# Altium footprint library CONNECTOR.PcbLib: 181 footprints (part 8 of 12)
Each footprint in its own frame and in the unit in brackets; x right, y up, seen from the top. Pads: shape width x height; smd on the part's side, far side on the other; paste and mask are expansions set on the pad; w line width, h text height; cw(c..) or ccw(c..) is an arc to the next point about the centre after c.
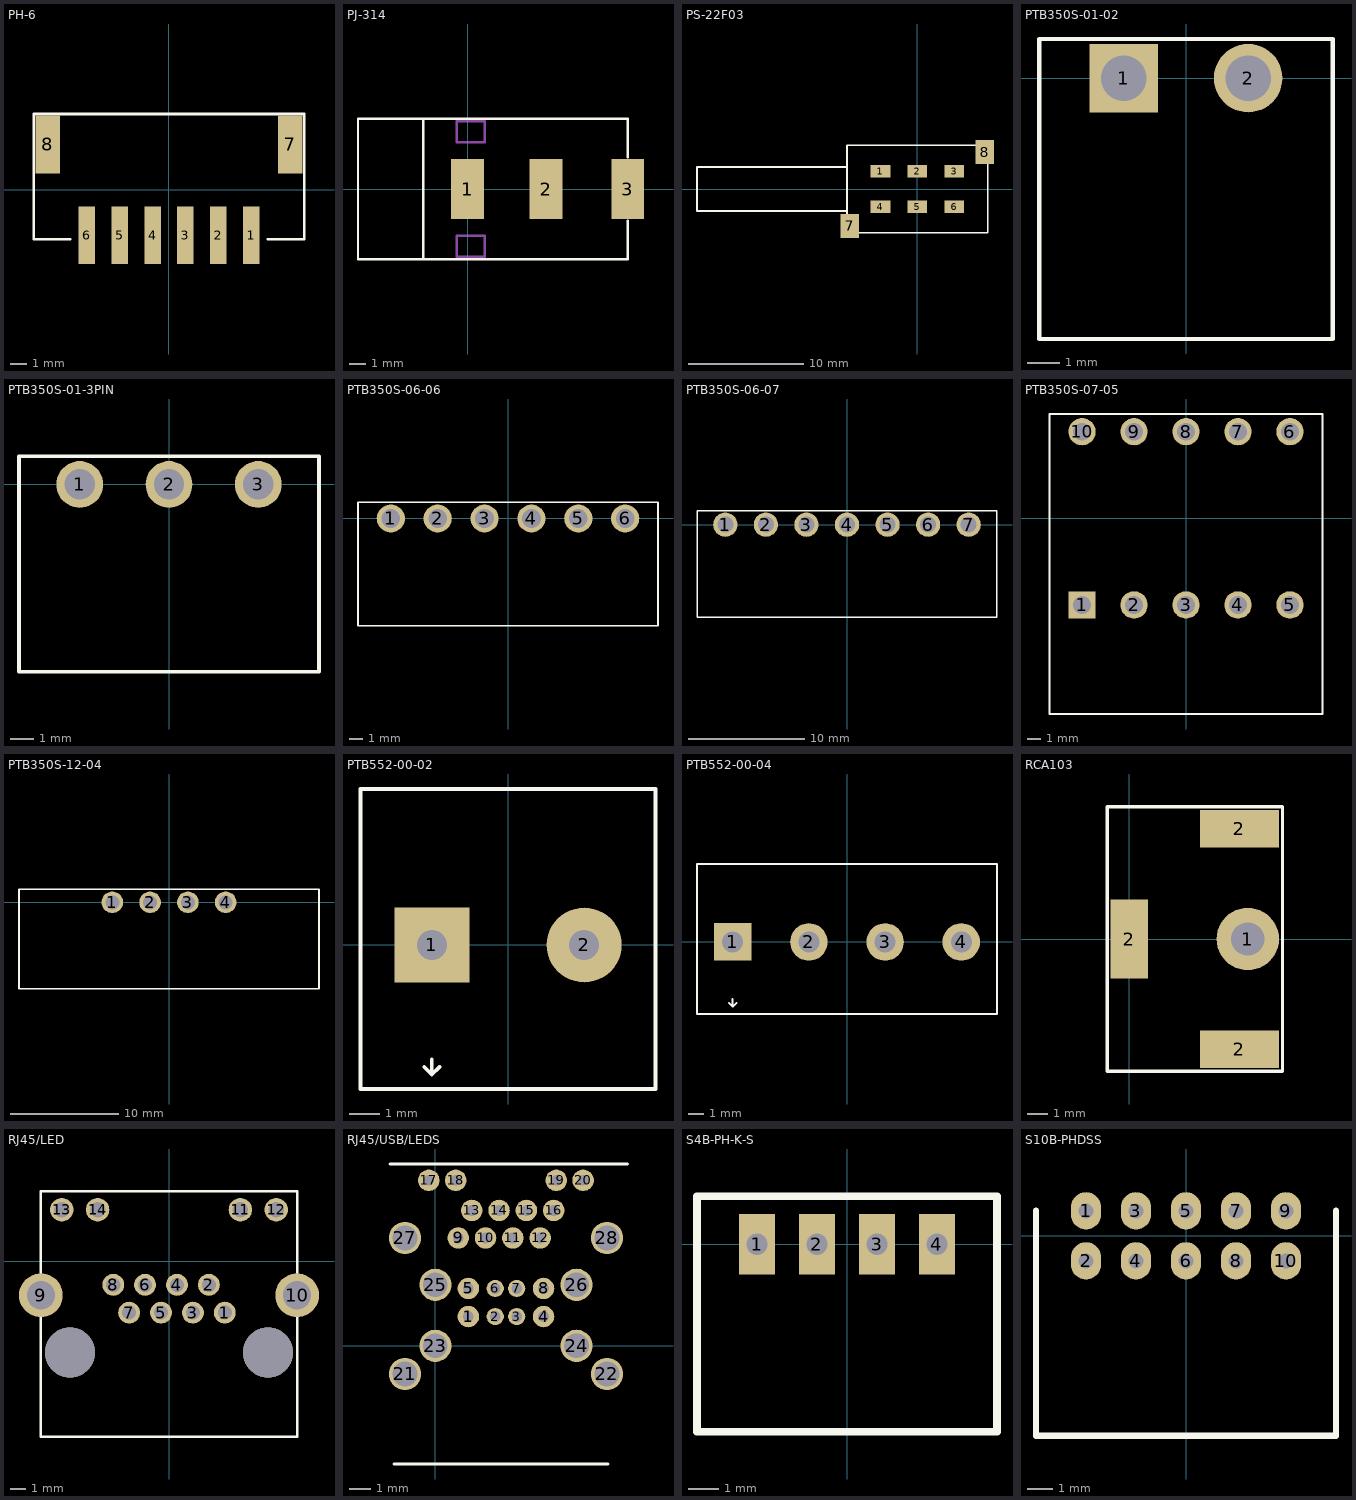
[diagram p7: the footprints below, top view; thin cyan lines are the x and y axes]

## PH-6 [mm] "S6B-PH-SM4-TB(JST)"
height 5.4
pads (8):
  rect 1x3.5 smd: 1(5,-2.75) 2(3,-2.75) 3(1,-2.75) 4(-1,-2.75) 5(-3,-2.75) 6(-5,-2.75)
  rect 1.5x3.5 smd: 7(7.35,2.75) 8(-7.35,2.75)
Top Overlay:
  lines w0.152: -6,-3 -8.2,-3 -8.2,4.6 8.2,4.6 8.2,-3 6,-3

## PJ-314 [mm]
pads (3):
  rect 2x3.7 all layers, no hole: 1(0,0) 2(4.8,0) 3(9.8,0)
Top Overlay:
  lines w0.152: -2.71,-4.3 -2.71,4.3 ; 9.8,-1.95 9.8,-4.3 -6.7,-4.3 -6.7,4.3 9.8,4.3 9.8,1.95
Mechanical 1:
  lines w0.152: -0.65,-4.15 -0.65,-2.85 1.05,-2.85 1.05,-4.15 -0.65,-4.15 ; -0.65,2.85 -0.65,4.15 1.05,4.15 1.05,2.85 -0.65,2.85 ; -0.4,-1.25 -0.4,1.25 0.4,1.25 0.4,-1.25 -0.4,-1.25 ; 4.4,-1.25 5.2,-1.25 5.2,1.25 4.4,1.25 4.4,-1.25 ; 9.4,-1.25 10.2,-1.25 10.2,1.25 9.4,1.25 9.4,-1.25

## PS-22F03 [mm] "PUSH SWITCH"
height 10
pads (8):
  rect 1.7x1.1 all layers, no hole: 1(-3.2,1.55) 2(0,1.55) 3(3.2,1.55) 4(-3.2,-1.55) 5(0,-1.55) 6(3.2,-1.55)
  rect 1.6x2.1 all layers, no hole: 7(-5.85,-3.2) 8(5.85,3.2)
Top Overlay:
  lines w0.152: -6.1,-1.9 -19.1,-1.9 -19.1,1.9 -6.1,1.9 ; -6.1,-3.8 -6.1,3.8 6.1,3.8 6.1,-3.8 -6.1,-3.8
Mechanical 1:
  lines w0.152: -6.3,-4 -6.3,-2.4 -5.4,-2.4 -5.4,-4 -6.3,-4 ; -3.8,-1.85 -3.8,-1.25 -2.6,-1.25 -2.6,-1.85 -3.8,-1.85 ; -3.8,1.25 -3.8,1.85 -2.6,1.85 -2.6,1.25 -3.8,1.25 ; -0.6,-1.85 -0.6,-1.25 0.6,-1.25 0.6,-1.85 -0.6,-1.85 ; -0.6,1.25 -0.6,1.85 0.6,1.85 0.6,1.25 -0.6,1.25 ; 2.6,-1.85 2.6,-1.25 3.8,-1.25 3.8,-1.85 2.6,-1.85 ; 2.6,1.25 2.6,1.85 3.8,1.85 3.8,1.25 2.6,1.25 ; 5.4,2.4 5.4,4 6.3,4 6.3,2.4 5.4,2.4

## PTB350S-01-02 [mm]
height 6.9
pads (2):
  rect 2.1x2.1 hole 1.4: 1(-1.905,0)
  round 2.1 hole 1.4: 2(1.905,0)
Top Overlay:
  lines w0.127: -4.5,-8 -4.5,1.2 4.5,1.2 4.5,-8 -4.5,-8

## PTB350S-01-3PIN [mm]
height 6.9
pads (3):
  round 2 hole 1.3: 1(-3.81,0) 2(0,0) 3(3.81,0)
Top Overlay:
  lines w0.152: -6.41,-8 -6.41,1.2 6.41,1.2 6.41,-8 -6.41,-8

## PTB350S-06-06 [mm]
height 6.9
pads (6):
  round 2.1 hole 1.4: 1(-8.75,0) 2(-5.25,0) 3(-1.75,0) 4(1.75,0) 5(5.25,0) 6(8.75,0)
Top Overlay:
  lines w0.127: -11.2,-8 -11.2,1.2 11.2,1.2 11.2,-8 -11.2,-8

## PTB350S-06-07 [mm]
height 6.9
pads (7):
  round 2.1 hole 1.4: 1(-10.5,0) 2(-7,0) 3(-3.5,0) 4(0,0) 5(3.5,0) 6(7,0) 7(10.5,0)
Top Overlay:
  lines w0.127: -12.95,-8 12.95,-8 12.95,1.2 -12.95,1.2 -12.95,-8

## PTB350S-07-05 [mm]
height 22.7
pads (10):
  rect 2x2 hole 1.3: 1(-7.62,-6.35)
  round 2 hole 1.3: 2(-3.81,-6.35) 3(0,-6.35) 4(3.81,-6.35) 5(7.62,-6.35) 6(7.62,6.35) 7(3.81,6.35) 8(0,6.35) 9(-3.81,6.35) 10(-7.62,6.35)
Top Overlay:
  lines w0.152: -10,-14.35 10,-14.35 10,7.65 -10,7.65 -10,-14.35

## PTB350S-12-04 [mm] "JIETE PTB350S-12"
height 7
pads (4):
  round 2 hole 1.3: 1(-5.25,0) 2(-1.75,0) 3(1.75,0) 4(5.25,0)
Top Overlay:
  lines w0.152: -13.9,-8 -13.9,1.2 13.9,1.2 13.9,-8 -13.9,-8

## PTB552-00-02 [mm]
height 14.4
pads (2):
  rect 2.5x2.5 hole 1: 1(-2.54,0)
  round 2.5 hole 1: 2(2.54,0)
Top Overlay:
  lines w0.127: -2.794,-4.064 -2.54,-4.318 ; -2.54,-3.81 -2.54,-4.318 ; -2.286,-4.064 -2.54,-4.318 ; -4.92,-4.8 4.92,-4.8 4.92,5.2 -4.92,5.2 -4.92,-4.8

## PTB552-00-04 [mm]
height 14.4
pads (4):
  rect 2.5x2.5 hole 1.4: 1(-7.62,0)
  round 2.5 hole 1.4: 2(-2.54,0) 3(2.54,0) 4(7.62,0)
Top Overlay:
  lines w0.127: -7.874,-4.064 -7.62,-4.318 ; -7.62,-3.81 -7.62,-4.318 ; -7.366,-4.064 -7.62,-4.318 ; -10,-4.8 10,-4.8 10,5.2 -10,5.2 -10,-4.8

## RCA103 [mm]
pads (4):
  round 3 hole 1.6: 1(5.7,0)
  rect 1.8x3.8 all layers, no hole: 2(0,0)
  rect 3.8x1.8 all layers, no hole: 2(5.3,-5.3) 2(5.3,5.3)
Top Overlay:
  lines w0.152: -1.05,-6.35 -1.05,6.35 7.365,6.35 7.365,-6.35 -1.05,-6.35
Mechanical 1:
  lines w0.152: -0.4,-1.4 0.4,-1.4 0.4,1.4 -0.4,1.4 -0.4,-1.4 ; 3.9,-5.7 3.9,-4.9 6.7,-4.9 6.7,-5.7 3.9,-5.7 ; 3.976,4.9 3.976,5.7 6.776,5.7 6.776,4.9 3.976,4.9

## RJ45/LED [mm] "RJ45 WITH LEDS"
height 13.1
pads (14):
  round 1.4 hole 0.9: 1(3.57,-3.295) 2(2.55,-1.515) 3(1.53,-3.295) 4(0.51,-1.515) 5(-0.51,-3.295) 6(-1.53,-1.515) 7(-2.55,-3.295) 8(-3.566,-1.515)
  round 2.8 hole 1.8: 9(-8.2,-2.185) 10(8.2,-2.185)
  round 1.5 hole 1: 11(4.57,3.295) 12(6.86,3.295) 13(-6.86,3.295) 14(-4.57,3.295)
via 6.35,-5.835 diameter 3.2 hole 3.2
via -6.35,-5.835 diameter 3.2 hole 3.2
Top Overlay:
  lines w0.152: -8.2,-3.635 -8.2,-11.235 8.2,-11.235 8.2,-3.635 ; -8.2,-0.735 -8.2,4.465 8.2,4.465 ; 8.204,-0.735 8.204,4.469

## RJ45/USB/LEDS [mm]
pads (28):
  round 1 hole 0.5: 1(1.535,1.36) 4(5.035,1.36) 5(1.535,2.67) 8(5.035,2.67) 9(1.065,5.02) 10(2.335,5.02) 11(3.605,5.02) 12(4.875,5.02) 13(1.695,6.3) 14(2.965,6.3) 15(4.235,6.3) 16(5.505,6.3) 17(-0.305,7.7) 18(0.945,7.7) 19(5.625,7.7) 20(6.875,7.7)
  round 0.8 hole 0.5: 2(2.785,1.36) 3(3.785,1.36) 6(2.785,2.67) 7(3.785,2.67)
  round 1.5 hole 1.15: 21(-1.415,-1.31) 22(7.985,-1.31) 23(0,0) 24(6.57,0) 25(0,2.84) 26(6.57,2.84) 27(-1.415,5.02) 28(7.985,5.02)
Top Overlay:
  lines w0.152: -2.1,8.46 8.924,8.46 ; -1.922,-5.5 8.035,-5.5

## S4B-PH-K-S [mm] "2.0MM PITCH RIGHT ANGLE"
height 4.8
pads (4):
  rect 1.2x2 hole 0.7: 1(-3,0) 2(-1,0) 3(1,0) 4(3,0)
Top Overlay:
  lines w0.254: -5,-6.25 -5,1.6 5,1.6 5,-6.25 -5,-6.25

## S10B-PHDSS [mm] "pitch 2.0mm"
height 5
pads (10):
  oval 1.2x1.5 hole 0.6: 1(-4,1) 2(-4,-1) 3(-2,1) 4(-2,-1) 5(0,1) 6(0,-1) 7(2,1) 8(2,-1) 9(4,1) 10(4,-1)
Top Overlay:
  lines w0.254: -6,1 -6,-8 6,-8 6,1